# EAGLE library part NPM1100-QDAA-R (library NPM1100-QDAA-R)
Battery Management Extremely compact Power Management IC (PMIC) QFN Source: Datasheet
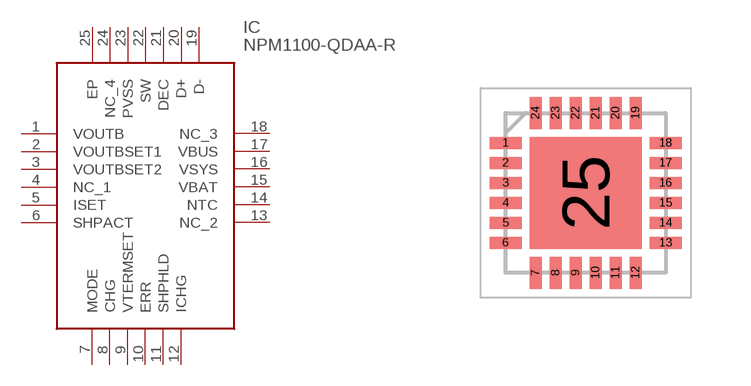
[diagram p0: symbol with the pads of QFN50P400X400X90-25N; footprint QFN50P400X400X90-25N]

Designator prefix IC

## NPM1100-QDAA-R (Description: Battery Management Extremely compact Power Management IC (PMIC) QFN; Height: 0.9mm; Manufacturer_Name: Nordic Semiconductor; Manufacturer_Part_Number: NPM1100-QDAA-R; Mouser_Part_Number: 949-NPM1100-QDAA-R; Mouser_Price-Stock: https://www.mouser.co.uk/ProductDetail/Nordic-Semiconductor/NPM1100-QDAA-R?qs=amGC7iS6iy9SVRzpFaPmEA%3D%3D)  [QFN50P400X400X90-25N]
1  VOUTB
2  VOUTBSET1
3  VOUTBSET2
4  NC_1
5  ISET
6  SHPACT
7  MODE
8  CHG
9  VTERMSET
10  ERR
11  SHPHLD
12  ICHG
13  NC_2
14  NTC
15  VBAT
16  VSYS
17  VBUS
18  NC_3
19  D-
20  D+
21  DEC
22  SW
23  PVSS
24  NC_4
25  EP

## Footprint QFN50P400X400X90-25N (pad centres in mm)
NPM1100-QDAA-R*
smd 0.8 x 0.3: 1 -2,1.25; 2 -2,0.75; 3 -2,0.25; 4 -2,-0.25; 5 -2,-0.75; 6 -2,-1.25; 13 2,-1.25; 14 2,-0.75; 15 2,-0.25; 16 2,0.25; 17 2,0.75; 18 2,1.25
smd 0.3 x 0.8: 7 -1.25,-2; 8 -0.75,-2; 9 -0.25,-2; 10 0.25,-2; 11 0.75,-2; 12 1.25,-2; 19 1.25,2; 20 0.75,2; 21 0.25,2; 22 -0.25,2; 23 -0.75,2; 24 -1.25,2
smd 2.8 x 2.8: 25 0,0